# Altium footprint library MountingEquipment.PcbLib: 1 footprints
Each footprint in its own frame and in the unit in brackets; x right, y up, seen from the top. Pads: shape width x height; smd on the part's side, far side on the other; paste and mask are expansions set on the pad; w line width, h text height; cw(c..) or ccw(c..) is an arc to the next point about the centre after c.
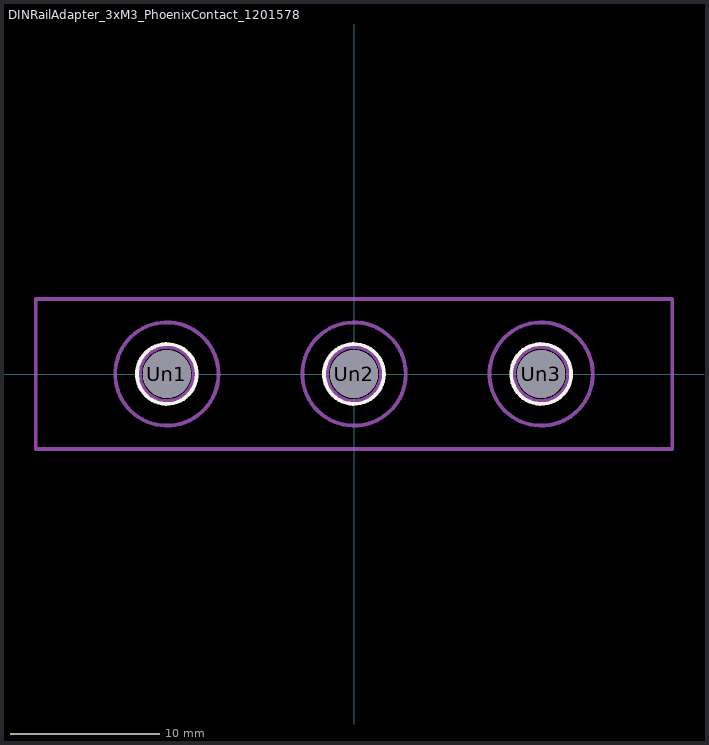
[diagram p0: the footprint, top view; thin cyan lines are the x and y axes]

## DINRailAdapter_3xM3_PhoenixContact_1201578 [mm]
pads (3):
  round 3.2 hole 3.2: Un1(-12.5,0) Un2(0,0) Un3(12.5,0)
F.SilkS:
  circle w0.254: c-12.5,0 r2
  circle w0.254: c0,0 r2
  circle w0.254: c12.5,0 r2
B.SilkS:
  lines w0.254: -21.25,-5 -21.25,5 21.25,5 21.25,-5 -21.25,-5
Top Component Center:
  lines w0.127: -0.127,0 0.127,0 ; 0,-0.127 0,0.127
Top Assembly:
  circle w0.254: c-12.5,0 r1.8
  circle w0.254: c0,0 r1.8
  circle w0.254: c12.5,0 r1.8
  text "'.Designator'" at -4.047,-5.09 h1
Top Courtyard:
  circle w0.254: c-12.5,0 r3.45
  circle w0.254: c0,0 r3.45
  circle w0.254: c12.5,0 r3.45
Bottom Courtyard:
  lines w0.254: -21.25,-5 -21.25,5 21.25,5 21.25,-5 -21.25,-5
Top Designator:
  text ".Designator" at -7.618,-0.731 h1.52
3D body "DINRailAdapter_3xM3_PhoenixContact_1201578.step": height -1.6, standoff -20.61, extent -21.245,-5 21.508,5